# EAGLE library part LB1848MC (library H-Bridges)
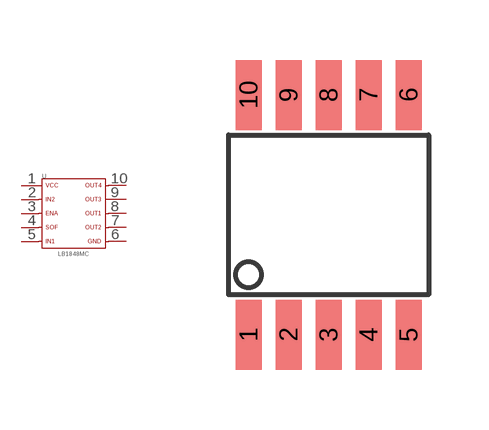
[diagram p1: symbol with the pads of SOIC-10; footprint SOIC-10]

Designator prefix U

## LB1848MC  [SOIC-10]
1  VCC  pas
2  IN2  pas
3  ENA  pas
4  SOF  pas
5  IN1  pas
6  GND  pas
7  OUT2  pas
8  OUT1  pas
9  OUT3  pas
10  OUT4  pas

## Footprint SOIC-10 (pad centres in mm)
smd 0.65 x 1.75: 1 -2,-3; 2 -1,-3; 3 0,-3; 4 1,-3; 5 2,-3; 6 2,3; 7 1,3; 8 0,3; 9 -1,3; 10 -2,3